# Altium footprint library LT6654AHS6-3.3TRMPBF.PcbLib: 1 footprints
Each footprint in its own frame and in the unit in brackets; x right, y up, seen from the top. Pads: shape width x height; smd on the part's side, far side on the other; paste and mask are expansions set on the pad; w line width, h text height; cw(c..) or ccw(c..) is an arc to the next point about the centre after c.
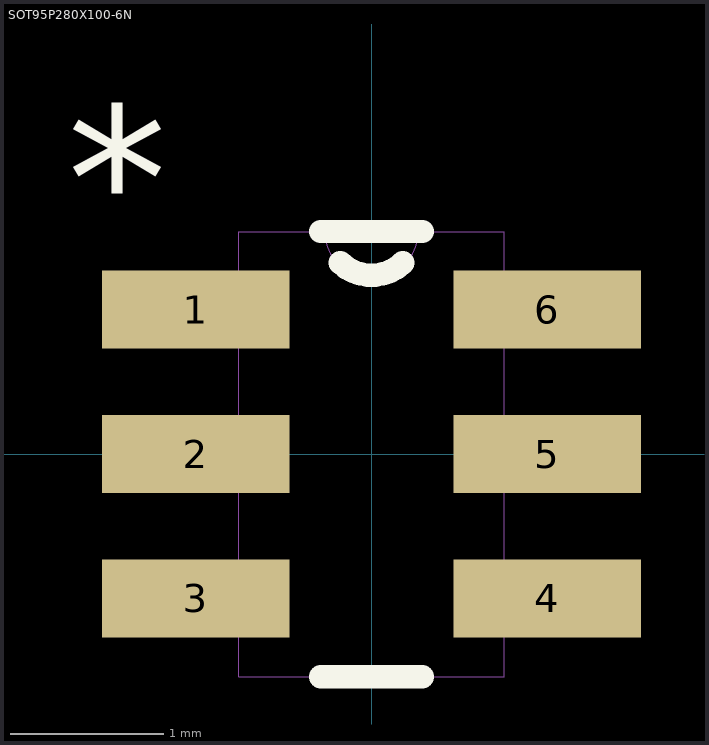
[diagram p0: the footprint, top view; thin cyan lines are the x and y axes]

## SOT95P280X100-6N [mil]
pads (6):
  rect 48x20 smd: 1(-45,37) 2(-45,0) 3(-45,-37) 4(45,-37) 5(45,0) 6(45,37)
Top Overlay:
  lines w6: -13,-57 13,-57 ; -13,57 13,57 ; -8,49 ccw(c0,57.28) 8,49
  text "*" at -78,52 h50
Mechanical 13:
  lines w0: -12,57 ccw(c0,57) 12,57 ; -12,57 -34,57 -34,-57 34,-57 34,57 12,57 ; -12,57 12,57 ; -55,-46 -34,-46 -34,-29 -55,-29 -55,-46 ; -55,-9 -34,-9 -34,9 -55,9 -55,-9 ; -55,29 -34,29 -34,46 -55,46 -55,29 ; 34,-46 55,-46 55,-29 34,-29 34,-46 ; 34,-9 55,-9 55,9 34,9 34,-9 ; 34,29 55,29 55,46 34,46 34,29
  text "*" at -78,52 h50
3D body "step_temp.STEP": height 39.37, standoff 0, extent -55.12,-57.09 55.12,57.09